# Altium footprint library WR-MMCX.PcbLib: 7 footprints
Each footprint in its own frame and in the unit in brackets; x right, y up, seen from the top. Pads: shape width x height; smd on the part's side, far side on the other; paste and mask are expansions set on the pad; w line width, h text height; cw(c..) or ccw(c..) is an arc to the next point about the centre after c.
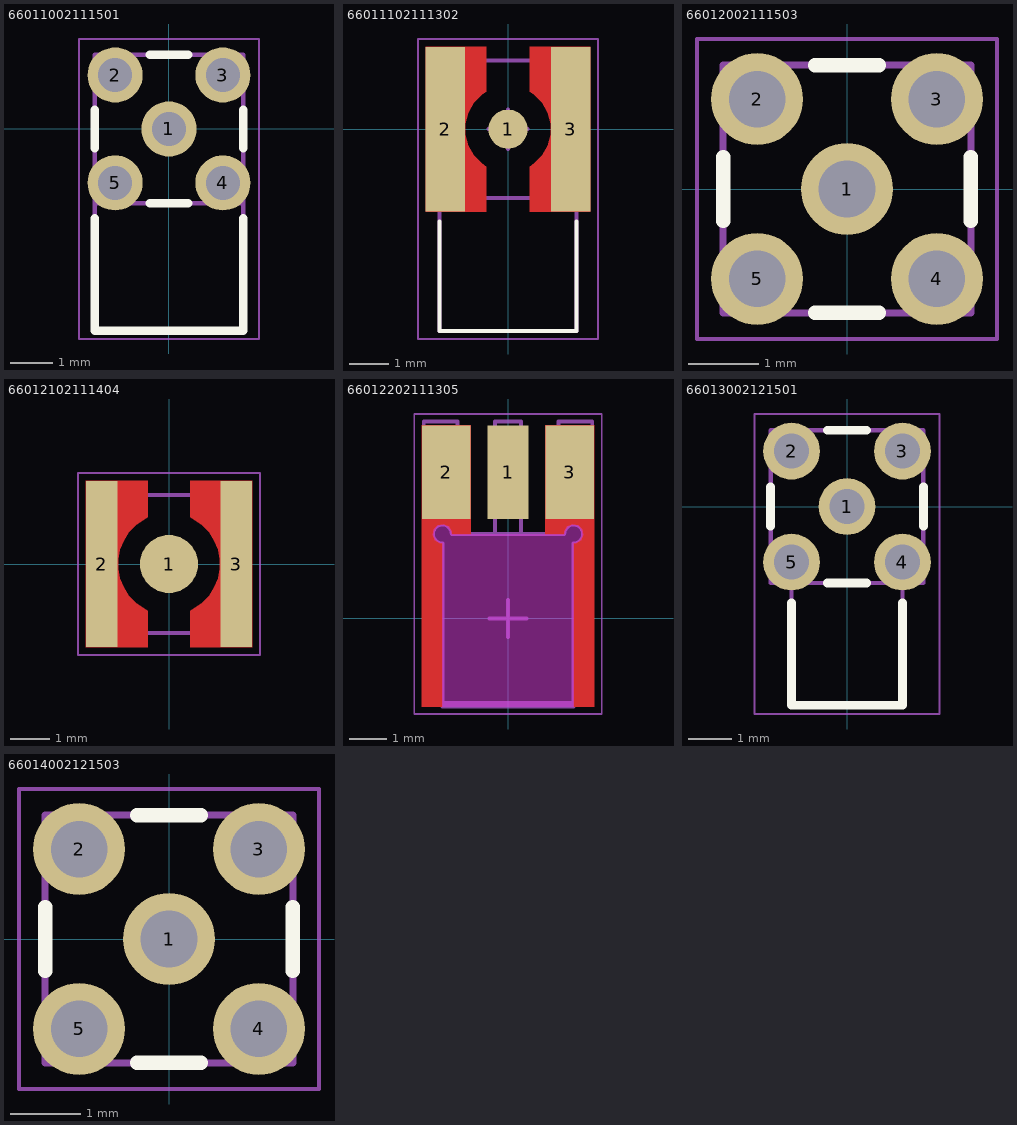
[diagram p0: the footprints below, top view; thin cyan lines are the x and y axes]

## 66011002111501 [mm] "MMCX PCB THT Jack"
height 3.5
pads (5):
  round 1.3 hole 0.8: 1(0,0) 2(-1.27,1.27) 3(1.27,1.27) 4(1.27,-1.27) 5(-1.27,-1.27)
Top Overlay:
  lines w0.2: -1.75,-2.1 -1.75,-4.75 1.75,-4.75 1.75,-2.1 ; -1.75,-0.45 -1.75,0.45 ; -0.45,-1.75 0.45,-1.75 ; -0.45,1.75 0.45,1.75 ; 1.75,-0.45 1.75,0.45
Top Assembly:
  lines w0.1: -1.75,-1.75 1.75,-1.75 ; -1.75,-1.75 -1.75,1.75 1.75,1.75 1.75,-1.75 ; -1.75,-1.75 -1.75,-4.75 1.75,-4.75 1.75,-1.75
Top Designator:
  text ".Designator" at -3.647,-0.357 h1
Top 3D Body:
  lines w0.1: -1.75,-1.75 -1.75,-4.75 1.75,-4.75 1.75,-1.75 ; -1.75,-1.75 -1.75,1.75 1.75,1.75 1.75,-1.75 ; -1.75,-1.75 1.75,-1.75
Top Courtyard:
  lines w0.05: -2.12,-4.95 -2.12,2.12 2.12,2.12 2.12,-4.95 -2.12,-4.95
Top Component Center:
  lines w0.1: -0.5,0 0.5,0 ; 0,-0.5 0,0.5
3D body "66011002111501.stp": height 3.8, standoff -2.5, extent -1.75,-4.75 1.75,1.75

## 66011102111302 [mm] "MMCX PCB Jack R/A SMT"
height 4.6
pads (3):
  round 1 smd: 1(0,0)
  rect 1x4.2 smd paste-2539.97 mask+0.102: 2(-1.6,0) 3(1.6,0)
Top Layer:
  region: 2.1,-2.1 2.1,2.1 0.55,2.1 0.55,0.953 0.67,0.873 0.873,0.67 1.016,0.421 1.091,0.144 1.091,-0.144 1.016,-0.421 0.873,-0.67 0.67,-0.873 0.55,-0.953 0.55,-2.1
  region: -2.1,-2.1 -2.1,2.1 -0.55,2.1 -0.55,0.953 -0.67,0.873 -0.873,0.67 -1.016,0.421 -1.091,0.144 -1.091,-0.144 -1.016,-0.421 -0.873,-0.67 -0.67,-0.873 -0.55,-0.953 -0.55,-2.1
Top Overlay:
  lines w0.1: -1.75,-2.35 -1.75,-5.15 1.75,-5.15 1.75,-2.35
Top Assembly:
  lines w0.1: -1.75,-1.75 -1.75,-5.15 1.75,-5.15 1.75,-1.75 ; -1.75,-1.75 1.75,-1.75 ; -1.75,-1.75 -1.75,1.75 1.75,1.75 1.75,-1.75
Top Designator:
  text ".Designator" at -3.647,-0.357 h1
Top 3D Body:
  lines w0.1: -1.75,-1.75 -1.75,1.75 1.75,1.75 1.75,-1.75 ; -1.75,-1.75 1.75,-1.75 ; -1.75,-1.75 -1.75,-5.15 1.75,-5.15 1.75,-1.75
Top Courtyard:
  lines w0.05: -2.3,-5.35 -2.3,2.3 2.3,2.3 2.3,-5.35 -2.3,-5.35
Top Component Center:
  lines w0.1: -0.5,0 0.5,0 ; 0,-0.5 0,0.5
3D body "66011102111302.stp": height 4.6, standoff 0, extent -1.75,-5.15 1.75,1.75

## 66012002111503 [mm] "MMCX PCB THT Jack"
height 4.5
pads (5):
  round 1.3 hole 0.8: 1(0,0) 2(-1.27,1.27) 3(1.27,1.27) 4(1.27,-1.27) 5(-1.27,-1.27)
Top Overlay:
  lines w0.2: -1.75,-0.45 -1.75,0.45 ; -0.45,-1.75 0.45,-1.75 ; -0.45,1.75 0.45,1.75 ; 1.75,-0.45 1.75,0.45
Top Assembly:
  lines w0.1: -1.75,-1.75 1.75,-1.75 1.75,1.75 -1.75,1.75 -1.75,-1.75
Top Designator:
  text ".Designator" at -3.647,-0.357 h1
Top 3D Body:
  lines w0.1: -1.75,-1.75 -1.75,1.75 1.75,1.75 1.75,-1.75 -1.75,-1.75
Top Courtyard:
  lines w0.05: -2.12,-2.12 -2.12,2.12 2.12,2.12 2.12,-2.12 -2.12,-2.12
Top Component Center:
  lines w0.1: -0.5,0 0.5,0 ; 0,-0.5 0,0.5
3D body "66012002111503.stp": height 4.5, standoff -2.5, extent -1.75,-1.75 1.75,1.75

## 66012102111404 [mm] "MMCX PCB SMT Jack"
height 5
pads (3):
  round 1.47 smd: 1(0,0)
  rect 0.8x4.2 smd paste-2539.97 mask+0.102: 2(-1.7,0) 3(1.7,0)
Top Layer:
  region: 2.105,-2.11 2.105,2.11 0.535,2.11 0.535,1.179 0.645,1.123 0.846,0.98 1.017,0.802 1.15,0.595 1.242,0.366 1.289,0.123 1.289,-0.123 1.242,-0.366 1.15,-0.595 1.017,-0.802 0.846,-0.98 0.645,-1.123 0.535,-1.179 0.535,-2.11
  region: -2.105,-2.11 -2.105,2.11 -0.535,2.11 -0.535,1.179 -0.645,1.123 -0.846,0.98 -1.017,0.802 -1.15,0.595 -1.242,0.366 -1.289,0.123 -1.289,-0.123 -1.242,-0.366 -1.15,-0.595 -1.017,-0.802 -0.846,-0.98 -0.645,-1.123 -0.535,-1.179 -0.535,-2.11
Top Assembly:
  lines w0.1: 1.75,-1.75 1.75,1.75 ; 1.75,-1.75 -1.75,-1.75 -1.75,1.75 1.75,1.75 ; 1.75,-1.75 1.75,1.75
Top Designator:
  text ".Designator" at -3.647,-0.357 h1
Top 3D Body:
  lines w0.1: 1.75,-1.75 1.75,1.75 ; 1.75,-1.75 -1.75,-1.75 -1.75,1.75 1.75,1.75 ; 1.75,-1.75 1.75,1.75
Top Courtyard:
  lines w0.05: -2.305,-2.31 2.305,-2.31 2.305,2.31 -2.305,2.31 -2.305,-2.31
Top Component Center:
  lines w0.1: -0.5,0 0.5,0 ; 0,-0.5 0,0.5
3D body "66012102111404.stp": height 4.98, standoff -0.02, extent -1.75,-1.75 1.75,1.75

## 66012202111305 [mm] "MMCX PCB End Launch Jack"
height 3.5
pads (3):
  rect 1.1x2.5 smd: 1(0,3.9)
  rect 1.3x2.5 smd paste-2539.97 mask+0.102: 2(-1.65,3.9) 3(1.65,3.9)
Top Layer:
  region: 2.3,-2.35 2.3,5.15 1,5.15 1,2.25 1.5,2.25 1.511,2.323 1.591,2.443 1.725,2.499 1.868,2.47 1.97,2.368 1.999,2.225 1.943,2.091 1.823,2.011 1.75,2 1.75,-2.35
  region: -2.3,-2.35 -2.3,5.15 -1,5.15 -1,2.25 -1.5,2.25 -1.511,2.323 -1.591,2.443 -1.725,2.499 -1.868,2.47 -1.97,2.368 -1.999,2.225 -1.943,2.091 -1.823,2.011 -1.75,2 -1.75,-2.35
Keep-Out Layer:
  board cut-out: -1.75,-2.35 1.75,-2.35 1.75,2 1.826,2 1.952,2.084 2.01,2.224 1.98,2.373 1.873,2.48 1.724,2.51 1.584,2.452 1.5,2.326 1.5,2.25 -1.5,2.25 -1.5,2.326 -1.584,2.452 -1.724,2.51 -1.873,2.48 -1.98,2.373 -2.01,2.224 -1.952,2.084 -1.826,2 -1.75,2
Assembly Notes:
  lines w0.1: -1.75,-2.35 -1.75,2 cw(c-1.75,2.25) -1.5,2.25 1.5,2.25 cw(c1.75,2.25) 1.75,2 1.75,-2.35 -1.75,-2.35
  text "PCB Cutout" at -1.5,-0.25 h0.38
Top Assembly:
  lines w0.1: 2.25,2.25 2.25,5.25 ; 2.25,2.25 2.25,-2.25 -2.25,-2.25 -2.25,2.25 -2.25,5.25 -1.35,5.25 -1.35,2.25 -0.35,2.25 -0.35,5.25 0.35,5.25 0.35,2.25 1.35,2.25 1.35,5.25 2.25,5.25 ; 2.25,2.25 2.25,5.25
Top Designator:
  text ".Designator" at -3.647,-0.357 h1
Top 3D Body:
  lines w0.1: 2.25,2.25 2.25,5.25 ; 2.25,2.25 2.25,-2.25 -2.25,-2.25 -2.25,2.25 -2.25,5.25 -1.35,5.25 -1.35,2.25 -0.35,2.25 -0.35,5.25 0.35,5.25 0.35,2.25 1.35,2.25 1.35,5.25 2.25,5.25 ; 2.25,2.25 2.25,5.25
Top Courtyard:
  lines w0.05: -2.5,-2.55 -2.5,5.45 2.5,5.45 2.5,-2.55 -2.5,-2.55
Top Component Center:
  lines w0.1: -0.5,0 0.5,0 ; 0,-0.5 0,0.5
3D body "66012202111305.stp": height 2.1, standoff -1.4, extent -2.25,-2.25 2.25,5.25

## 66013002121501 [mm] "MMCX PCB THT Plug"
height 4.6
pads (5):
  round 1.3 hole 0.8 paste-2539.97: 1(0,0) 2(-1.27,1.27) 3(1.27,1.27) 4(1.27,-1.27) 5(-1.27,-1.27)
Top Overlay:
  lines w0.2: -1.75,-0.45 -1.75,0.45 ; -1.27,-2.2 -1.27,-4.55 1.27,-4.55 1.27,-2.2 ; -0.45,-1.75 0.45,-1.75 ; -0.45,1.75 0.45,1.75 ; 1.75,-0.45 1.75,0.45
Top Assembly:
  lines w0.1: -1.27,-1.75 -1.27,-4.55 1.27,-4.55 1.27,-1.75 ; -1.75,-1.75 -1.75,1.75 1.75,1.75 1.75,-1.75 -1.75,-1.75
Top Designator:
  text ".Designator" at -3.647,-0.357 h1
Top 3D Body:
  lines w0.1: -1.27,-1.75 -1.27,-4.55 1.27,-4.55 1.27,-1.75 ; -1.75,-1.75 1.75,-1.75 1.75,1.75 -1.75,1.75 -1.75,-1.75
Top Courtyard:
  lines w0.05: -2.12,-4.75 -2.12,2.12 2.12,2.12 2.12,-4.75 -2.12,-4.75
Top Component Center:
  lines w0.1: -0.5,0 0.5,0 ; 0,-0.5 0,0.5
3D body "66013002121501.stp": height 4.6, standoff -2.5, extent -1.75,-4.55 1.75,1.75

## 66014002121503 [mm] "MMCX PCB THT Plug"
height 4.5
pads (5):
  round 1.3 hole 0.8 paste-2539.97: 1(0,0) 2(-1.27,1.27) 3(1.27,1.27) 4(1.27,-1.27) 5(-1.27,-1.27)
Top Overlay:
  lines w0.2: -1.75,-0.45 -1.75,0.45 ; -0.45,-1.75 0.45,-1.75 ; -0.45,1.75 0.45,1.75 ; 1.75,-0.45 1.75,0.45
Top Assembly:
  lines w0.1: -1.75,-1.75 -1.75,1.75 1.75,1.75 1.75,-1.75 -1.75,-1.75
Top Designator:
  text ".Designator" at -3.647,-0.357 h1
Top 3D Body:
  lines w0.1: -1.75,-1.75 1.75,-1.75 1.75,1.75 -1.75,1.75 -1.75,-1.75
Top Courtyard:
  lines w0.05: -2.12,-2.12 -2.12,2.12 2.12,2.12 2.12,-2.12 -2.12,-2.12
Top Component Center:
  lines w0.1: -0.5,0 0.5,0 ; 0,-0.5 0,0.5
3D body "66014002121503.stp": height 4.5, standoff -2.5, extent -1.75,-1.75 1.75,1.75